# Altium footprint library SeniorProject-Unused.PcbLib: 9 footprints
Each footprint in its own frame and in the unit in brackets; x right, y up, seen from the top. Pads: shape width x height; smd on the part's side, far side on the other; paste and mask are expansions set on the pad; w line width, h text height; cw(c..) or ccw(c..) is an arc to the next point about the centre after c.
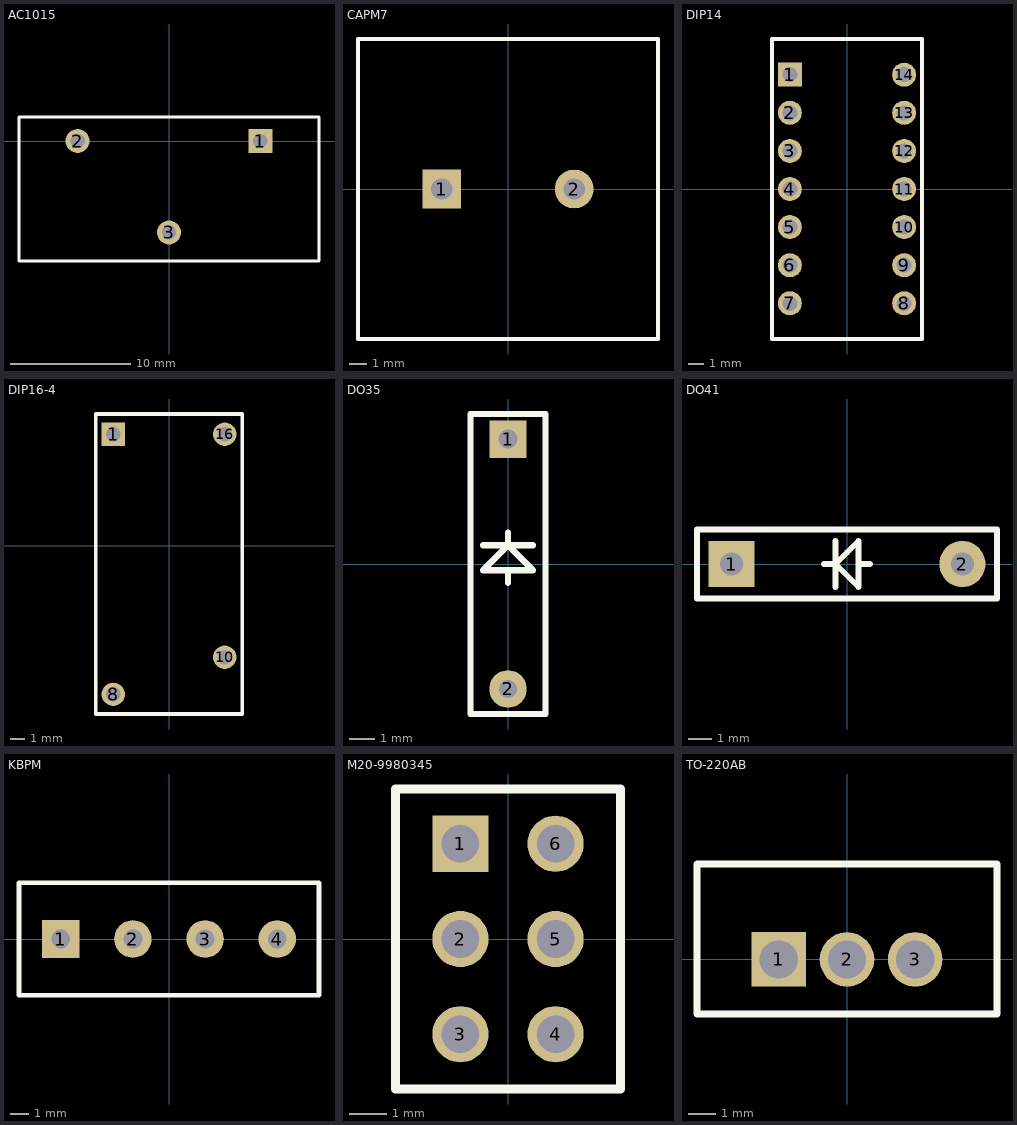
[diagram p0: the footprints below, top view; thin cyan lines are the x and y axes]

## AC1015 [mm]
pads (3):
  rect 2x2 hole 1.2: 1(7.62,0)
  round 2 hole 1.2: 2(-7.62,0) 3(0,-7.62)
Top Overlay:
  lines w0.25: -12.5,-10 -12.5,2 12.5,2 12.5,-10 -12.5,-10
3D body "AC1015.stp": height 23.8, standoff -6, extent -11.9,-9.36 11.9,1.76

## CAPM7 [mm]
pads (2):
  rect 2.2x2.2 hole 1.2: 1(-3.75,0)
  round 2.2 hole 1.2: 2(3.75,0)
Top Overlay:
  lines w0.25: -8.5,-8.5 -8.5,8.5 8.5,8.5 8.5,-8.5 -8.5,-8.5
3D body "User Library-CE_R300_D650_H1000.STEP": height 26.4, standoff -2.5, extent -8.25,-8.25 8.25,8.25

## DIP14 [mm]
pads (14):
  rect 1.6x1.6 hole 1: 1(-3.81,7.62)
  round 1.6 hole 1: 2(-3.81,5.08) 3(-3.81,2.54) 4(-3.81,0) 5(-3.81,-2.54) 6(-3.81,-5.08) 7(-3.81,-7.62) 8(3.81,-7.62) 9(3.81,-5.08) 10(3.81,-2.54) 11(3.81,0) 12(3.81,2.54) 13(3.81,5.08) 14(3.81,7.62)
Top Overlay:
  lines w0.25: -5,-10 5,-10 5,10 -5,10 -5,-10
3D body "DIL14.stp": height 4, standoff -4.3, extent -3.81,-9.6 3.81,9.6

## DIP16-4 [mm]
pads (4):
  rect 1.6x1.6 hole 1: 1(-3.81,7.62)
  round 1.6 hole 1: 8(-3.81,-10.16) 10(3.81,-7.62) 16(3.81,7.62)
Top Overlay:
  lines w0.25: -5,-11.5 5,-11.5 5,9 -5,9 -5,-11.5
3D body "DIP16-4.stp": height 3.79, standoff -3.06, extent -4.264,-11.05 4.264,8.45

## DO35 [mm]
pads (2):
  rect 1.5x1.5 hole 0.75: 1(0,5)
  round 1.5 hole 0.7: 2(0,-5)
Top Overlay:
  lines w0.25: -1,0.75 1,0.75 ; 0,-0.75 0,-0.25 ; 0,1.25 0,0.75 ; -1,-0.25 -1,-0.25 ; -1,-0.25 0,0.75 ; -1,-0.25 1,-0.25 0.5,0.25 0,0.75 ; 0,0.75 0,0.75 ; -1.5,-6 1.5,-6 1.5,6 -1.5,6 -1.5,-6
3D body "DO-35 Diode Horizontal.stp": height 2.02, standoff -3.04, extent -0.925,-5.36 0.925,5.36

## DO41 [mm]
pads (2):
  rect 2x2 hole 1: 1(-5,0)
  round 2 hole 1: 2(5,0)
Top Overlay:
  lines w0.25: -1,0 -0.5,0 ; -0.5,-1 -0.5,1 ; 0.5,0 1,0 ; -0.5,0 0,0.5 0.5,1 0.5,-1 ; -0.5,0 -0.5,0 ; -0.5,0 0.5,-1 ; 0.5,-1 0.5,-1 ; -6.5,-1.5 6.5,-1.5 6.5,1.5 -6.5,1.5 -6.5,-1.5
3D body "do-41.STEP": height 3.01, standoff -1.5, extent -5.4,-1.005 5.4,1.005

## KBPM [mm]
pads (4):
  rect 2x2 hole 1: 1(-5.775,0)
  round 2 hole 1: 2(-1.925,0) 3(1.925,0) 4(5.775,0)
Top Overlay:
  lines w0.25: -8,-3 -8,3 8,3 8,-3 -8,-3
3D body "SW3dPS-KBPM.STEP": height 11.5, standoff -12.7, extent -7.29,-2.505 7.29,2.505

## M20-9980345 [mm]
pads (6):
  rect 1.5x1.5 hole 1: 1(-1.27,2.54)
  round 1.5 hole 1: 2(-1.27,0) 3(-1.27,-2.54) 4(1.27,-2.54) 5(1.27,0) 6(1.27,2.54)
Top Overlay:
  lines w0.25: -3,-4 3,-4 3,4 -3,4 -3,-4
3D body "m20-9980345_asm.stp": height 8.7, standoff -2.98, extent -2.54,-3.81 2.54,3.81

## TO-220AB [mm]
pads (3):
  rect 2x2 hole 1.4: 1(-2.5,0)
  round 2 hole 1.4: 2(0,0) 3(2.5,0)
Top Overlay:
  lines w0.25: -5.5,-2 5.5,-2 5.5,3.5 -5.5,3.5 -5.5,-2
3D body "TO-220AB-ST.stp": height 19.5, standoff -9.2, extent -5.325,-1.75 5.325,3.05